# Altium schematic symbol library C.SchLib: 1 symbol
Pins are listed as number, name and electrical type; pins without a type are passive.

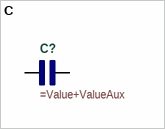
[diagram p0: symbol C]

## C
designator C?
pins: 1, 2